# EAGLE library part MA11-1J (library joakim)
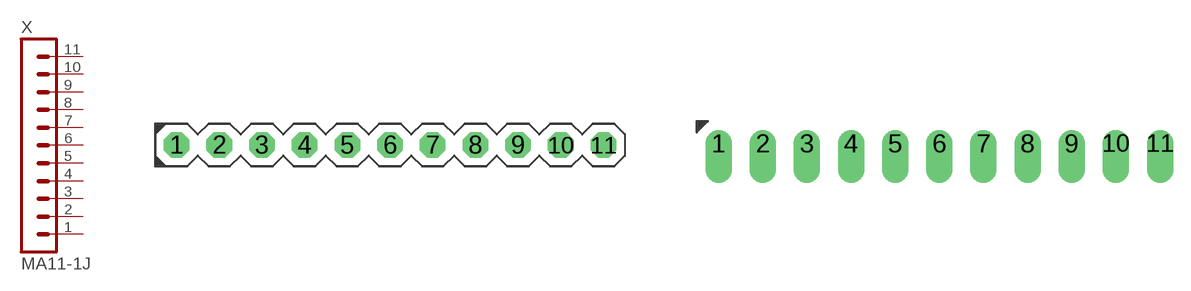
[diagram p81: symbol with the pads of MA11-1J; footprints MA11-1J, SIP-PIN11-1J]

Designator prefix X

## MA11-1JC  [MA11-1J]
1  1  pas
2  2  pas
3  3  pas
4  4  pas
5  5  pas
6  6  pas
7  7  pas
8  8  pas
9  9  pas
10  10  pas
11  11  pas

## MA11-1JP  [SIP-PIN11-1J]
Pads as for MA11-1J

## Footprint MA11-1J (pad centres in mm)
drill 1.016 octagon: 1 -11.43,0; 2 -8.89,0; 3 -6.35,0; 4 -3.81,0; 5 -1.27,0; 6 1.27,0; 7 3.81,0; 8 6.35,0; 9 8.89,0; 10 11.43,0; 11 13.97,0

## Footprint SIP-PIN11-1J (pad centres in mm)
drill 1.016 offset: 1 -12.7,0; 2 -10.16,0; 3 -7.62,0; 4 -5.08,0; 5 -2.54,0; 6 0,0; 7 2.54,0; 8 5.08,0; 9 7.62,0; 10 10.16,0; 11 12.7,0